# Altium footprint library Microchip Power Management MOSFET Driver.PcbLib: 41 footprints (part 1 of 3)
Each footprint in its own frame and in the unit in brackets; x right, y up, seen from the top. Pads: shape width x height; smd on the part's side, far side on the other; paste and mask are expansions set on the pad; w line width, h text height; cw(c..) or ccw(c..) is an arc to the next point about the centre after c.
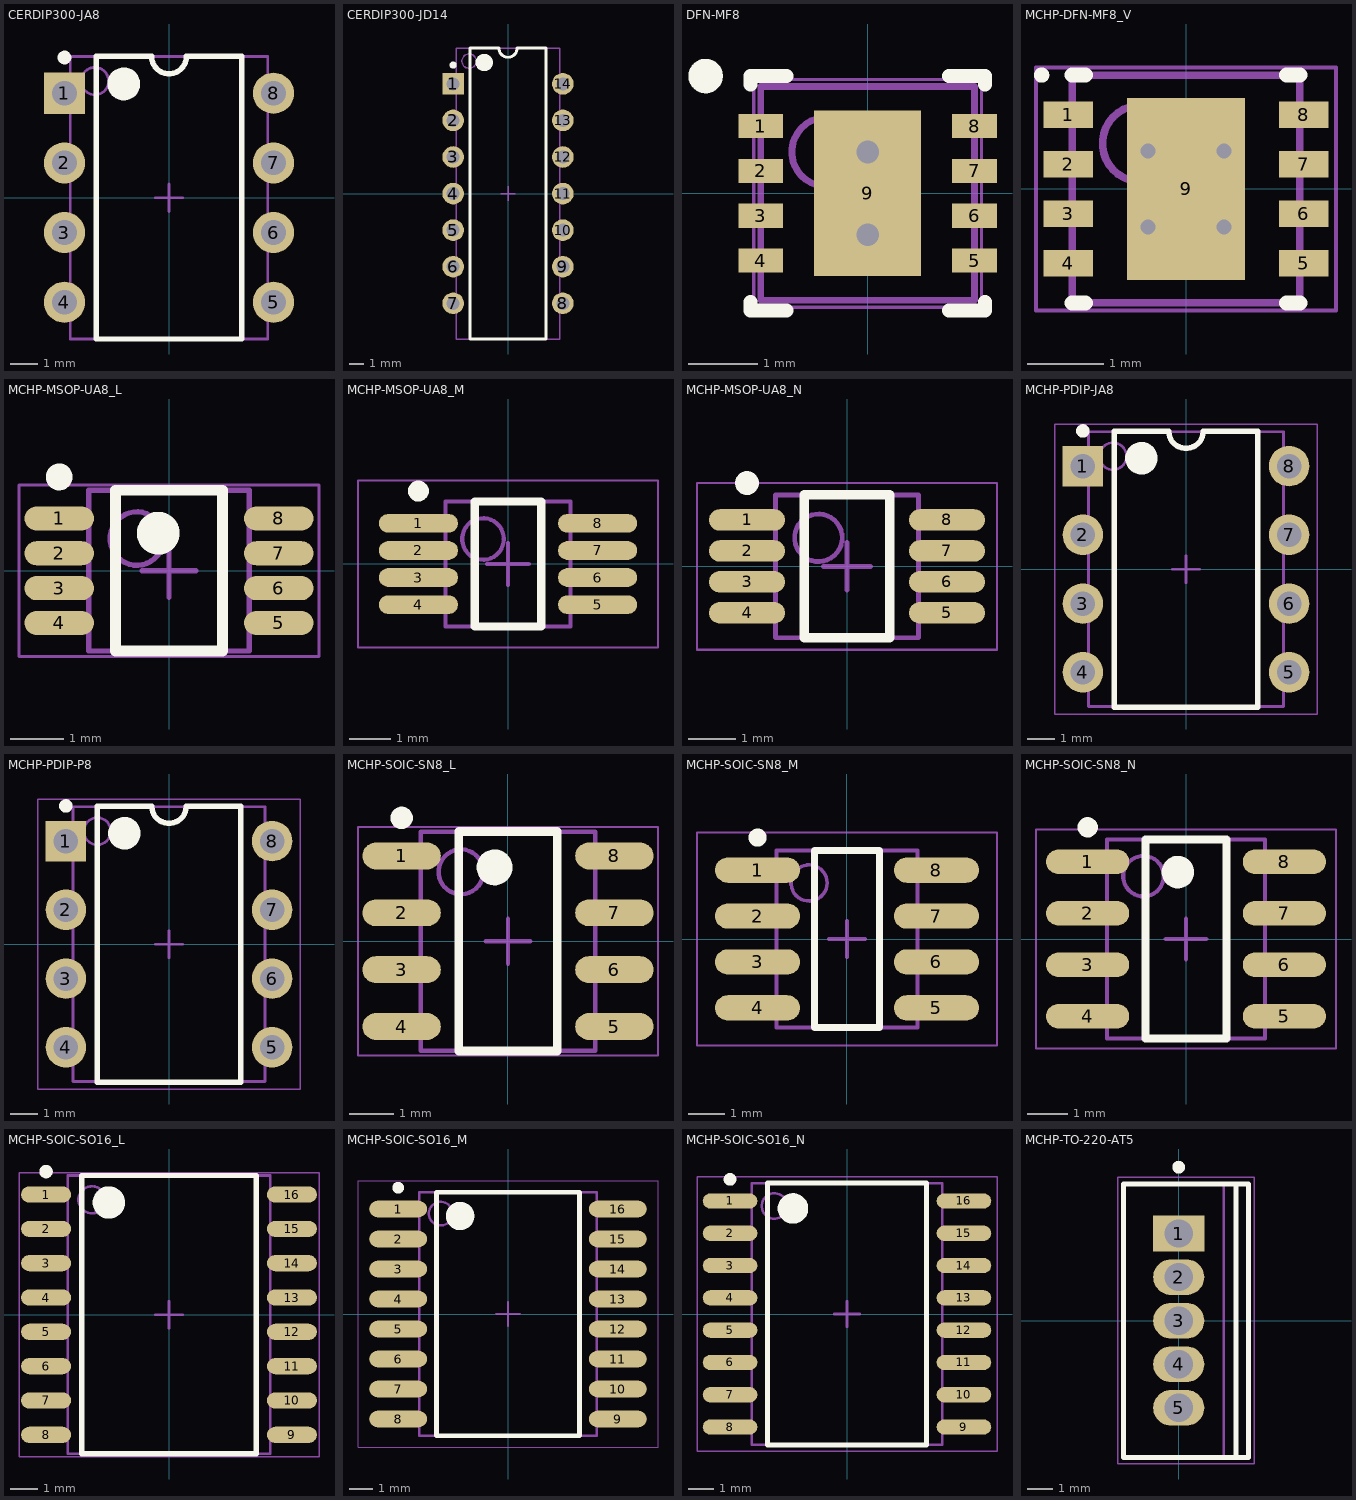
[diagram p0: the footprints below, top view; thin cyan lines are the x and y axes]

## CERDIP300-JA8 [mm] "DIP, 8-Leads, Row Spacing 7.62mm, Pitch 2.54mm, Body 9.8x6.7mm"
height 5.33
pads (8):
  rect 1.5x1.5 hole 0.9: 1(-3.81,3.81)
  round 1.5 hole 0.9: 2(-3.81,1.27) 3(-3.81,-1.27) 4(-3.81,-3.81) 5(3.81,-3.81) 6(3.81,-1.27) 7(3.81,1.27) 8(3.81,3.81)
Top Overlay:
  circle w0.25: c-3.81,5.11 r0.125
  circle w0.6: c-1.65,4.15 r0.3
  lines w0.2: -2.65,-5.15 -2.65,5.15 -0.635,5.15 ccw(c0,5.15) 0.635,5.15 2.65,5.15 2.65,-5.15 -2.65,-5.15
Mechanical 13:
  circle w0.1: c-2.7,4.25 r0.5
  lines w0.1: -3.6,-5.15 -3.6,5.15 3.6,5.15 3.6,-5.15 -3.6,-5.15
Mechanical 15:
  lines w0.1: -0.5,0 0.5,0 ; 0,-0.5 0,0.5
3D body: height 5.33, standoff 0, extent -3.6,-5.15 3.6,5.15

## CERDIP300-JD14 [mm] "DIP, 14-Leads, Row Spacing 7.62mm, Pitch 2.54mm, Body 19.3x6.7mm"
height 5.08
pads (14):
  rect 1.5x1.5 hole 0.9: 1(-3.81,7.62)
  round 1.5 hole 0.9: 2(-3.81,5.08) 3(-3.81,2.54) 4(-3.81,0) 5(-3.81,-2.54) 6(-3.81,-5.08) 7(-3.81,-7.62) 8(3.81,-7.62) 9(3.81,-5.08) 10(3.81,-2.54) 11(3.81,0) 12(3.81,2.54) 13(3.81,5.08) 14(3.81,7.62)
Top Overlay:
  circle w0.6: c-1.65,9.1 r0.3
  circle w0.25: c-3.81,8.92 r0.125
  lines w0.2: -2.65,-10.1 2.65,-10.1 2.65,10.1 0.635,10.1 cw(c0,10.1) -0.635,10.1 -2.65,10.1 -2.65,-10.1
Mechanical 13:
  circle w0.1: c-2.7,9.2 r0.5
  lines w0.1: -3.6,-10.1 3.6,-10.1 3.6,10.1 -3.6,10.1 -3.6,-10.1
Mechanical 15:
  lines w0.1: -0.5,0 0.5,0 ; 0,-0.5 0,0.5
3D body: height 5.08, standoff 0, extent -3.6,-10.1 3.6,10.1

## DFN-MF8 [mm] "SON, 8-Leads, Body 3x3mm, Pitch 0.65mm, Microchip Recommended"
height 1
pads (9):
  rect 0.65x0.35 smd: 1(-1.55,0.975) 2(-1.55,0.325) 3(-1.55,-0.325) 4(-1.55,-0.975) 5(1.55,-0.975) 6(1.55,-0.325) 7(1.55,0.325) 8(1.55,0.975)
  rect 1.55x2.4 smd: 9(0,0)
via 0,0.6 diameter 0.66 hole 0.33
via 0,-0.6 diameter 0.66 hole 0.33
Top Overlay:
  circle w0.25: c-2.35,1.7 r0.125
  lines w0.2: -1.7,-1.575 -1.7,-1.7 -1.175,-1.7 ; -1.7,1.575 -1.7,1.7 -1.175,1.7 ; 1.175,-1.7 1.7,-1.7 1.7,-1.575 ; 1.175,1.7 1.7,1.7 1.7,1.575
Mechanical 13:
  circle w0.1: c-0.6,0.6 r0.5
  lines w0.1: -1.55,-1.55 -1.55,1.55 1.55,1.55 1.55,-1.55 -1.55,-1.55
Mechanical 15:
  lines w0.05: -1.65,-1.65 -1.65,1.65 1.65,1.65 1.65,-1.65 -1.65,-1.65
  lines w0.1: -0.5,0 0.5,0 ; 0,-0.5 0,0.5
3D body: height 1, standoff 0, extent -1.55,-1.55 1.55,1.55

## MCHP-DFN-MF8_V [mm] "SON, 8-Leads, Body 3x3mm, Pitch 0.65mm, Thermal Pad 2.4x1.55mm"
height 1
pads (9):
  rect 0.65x0.35 smd: 1(-1.55,0.975) 2(-1.55,0.325) 3(-1.55,-0.325) 4(-1.55,-0.975) 5(1.55,-0.975) 6(1.55,-0.325) 7(1.55,0.325) 8(1.55,0.975)
  rect 1.55x2.4 smd: 9(0,0)
via -0.5,0.5 diameter 0.5 hole 0.2
via 0.5,0.5 diameter 0.5 hole 0.2
via -0.5,-0.5 diameter 0.5 hole 0.2
via 0.5,-0.5 diameter 0.5 hole 0.2
Top Overlay:
  circle w0.1: c-1.9,1.5 r0.05
  lines w0.2: -1.5,-1.5 -1.325,-1.5 ; -1.5,1.5 -1.325,1.5 ; 1.325,-1.5 1.5,-1.5 ; 1.325,1.5 1.5,1.5
Mechanical 13:
  circle w0.1: c-0.6,0.6 r0.5
  lines w0.1: -1.5,-1.5 -1.5,1.5 1.5,1.5 1.5,-1.5 -1.5,-1.5
Mechanical 15:
  lines w0.05: -1.975,-1.6 -1.975,1.6 1.975,1.6 1.975,-1.6 -1.975,-1.6
  lines w0.1: -0.5,0 0.5,0 ; 0,-0.5 0,0.5
3D body: height 1, standoff 0, extent -1.5,-1.5 1.5,1.5

## MCHP-MSOP-UA8_L [mm] "SOP, 8-Leads, Body 3x3mm, Pitch 0.65mm, IPC High Density"
height 1.1
pads (8):
  oval 1.3x0.45 smd: 1(-2.05,0.975) 2(-2.05,0.325) 3(-2.05,-0.325) 4(-2.05,-0.975) 5(2.05,-0.975) 6(2.05,-0.325) 7(2.05,0.325) 8(2.05,0.975)
Top Overlay:
  circle w0.25: c-2.05,1.75 r0.125
  circle w0.4: c-0.2,0.7 r0.2
  lines w0.2: -1,-1.5 -1,1.5 1,1.5 1,-1.5 -1,-1.5
Mechanical 13:
  circle w0.1: c-0.6,0.6 r0.5
  lines w0.1: -1.5,-1.5 -1.5,1.5 1.5,1.5 1.5,-1.5 -1.5,-1.5
Mechanical 15:
  lines w0.05: -2.8,-1.6 -2.8,1.6 2.8,1.6 2.8,-1.6 -2.8,-1.6
  lines w0.1: -0.5,0 0.5,0 ; 0,-0.5 0,0.5
3D body: height 1.1, standoff 0, extent -1.5,-1.5 1.5,1.5

## MCHP-MSOP-UA8_M [mm] "SOP, 8-Leads, Body 3x3mm, Pitch 0.65mm, IPC Low Density"
height 1.1
pads (8):
  oval 1.9x0.45 smd: 1(-2.15,0.975) 2(-2.15,0.325) 3(-2.15,-0.325) 4(-2.15,-0.975) 5(2.15,-0.975) 6(2.15,-0.325) 7(2.15,0.325) 8(2.15,0.975)
Top Overlay:
  circle w0.25: c-2.15,1.75 r0.125
  lines w0.2: -0.8,-1.5 -0.8,1.5 0.8,1.5 0.8,-1.5 -0.8,-1.5
Mechanical 13:
  circle w0.1: c-0.6,0.6 r0.5
  lines w0.1: -1.5,-1.5 -1.5,1.5 1.5,1.5 1.5,-1.5 -1.5,-1.5
Mechanical 15:
  lines w0.05: -3.6,-2 -3.6,2 3.6,2 3.6,-2 -3.6,-2
  lines w0.1: -0.5,0 0.5,0 ; 0,-0.5 0,0.5
3D body: height 1.1, standoff 0, extent -1.5,-1.5 1.5,1.5

## MCHP-MSOP-UA8_N [mm] "SOP, 8-Leads, Body 3x3mm, Pitch 0.65mm, IPC Medium Density"
height 1.1
pads (8):
  oval 1.6x0.45 smd: 1(-2.1,0.975) 2(-2.1,0.325) 3(-2.1,-0.325) 4(-2.1,-0.975) 5(2.1,-0.975) 6(2.1,-0.325) 7(2.1,0.325) 8(2.1,0.975)
Top Overlay:
  circle w0.25: c-2.1,1.75 r0.125
  lines w0.2: -0.9,-1.5 -0.9,1.5 0.9,1.5 0.9,-1.5 -0.9,-1.5
Mechanical 13:
  circle w0.1: c-0.6,0.6 r0.5
  lines w0.1: -1.5,-1.5 -1.5,1.5 1.5,1.5 1.5,-1.5 -1.5,-1.5
Mechanical 15:
  lines w0.05: -3.15,-1.75 -3.15,1.75 3.15,1.75 3.15,-1.75 -3.15,-1.75
  lines w0.1: -0.5,0 0.5,0 ; 0,-0.5 0,0.5
3D body: height 1.1, standoff 0, extent -1.5,-1.5 1.5,1.5

## MCHP-PDIP-JA8 [mm] "DIP, 8-Leads, Body 9.78x6.73mm, Pitch 2.54mm"
height 5.08
pads (8):
  rect 1.5x1.5 hole 0.9: 1(-3.81,3.81)
  round 1.5 hole 0.9: 2(-3.81,1.27) 3(-3.81,-1.27) 4(-3.81,-3.81) 5(3.81,-3.81) 6(3.81,-1.27) 7(3.81,1.27) 8(3.81,3.81)
Top Overlay:
  circle w0.25: c-3.81,5.11 r0.125
  circle w0.6: c-1.65,4.1 r0.3
  lines w0.2: -2.65,-5.1 -2.65,5.1 -0.635,5.1 ccw(c0,5.1) 0.635,5.1 2.65,5.1 2.65,-5.1 -2.65,-5.1
Mechanical 13:
  circle w0.1: c-2.7,4.175 r0.5
  lines w0.1: -3.6,-5.075 -3.6,5.075 3.6,5.075 3.6,-5.075 -3.6,-5.075
Mechanical 15:
  lines w0.05: -4.85,-5.35 -4.85,5.35 4.85,5.35 4.85,-5.35 -4.85,-5.35
  lines w0.1: -0.5,0 0.5,0 ; 0,-0.5 0,0.5
3D body: height 2.66, standoff 0, extent -3.945,3.31 -3.675,4.31
3D body: height 2.93, standoff 2.66, extent -3.945,3.31 -3.6,4.31
3D body: height 0, standoff -1.6, extent -3.945,3.45 -3.675,4.17
3D body: height 2.66, standoff 0, extent -3.945,0.77 -3.675,1.77
3D body: height 2.93, standoff 2.66, extent -3.945,0.77 -3.6,1.77
3D body: height 0, standoff -1.6, extent -3.945,0.91 -3.675,1.63
3D body: height 2.66, standoff 0, extent -3.945,-1.77 -3.675,-0.77
3D body: height 2.93, standoff 2.66, extent -3.945,-1.77 -3.6,-0.77
3D body: height 0, standoff -1.6, extent -3.945,-1.63 -3.675,-0.91
3D body: height 2.66, standoff 0, extent -3.945,-4.31 -3.675,-3.31
3D body: height 2.93, standoff 2.66, extent -3.945,-4.31 -3.6,-3.31
3D body: height 0, standoff -1.6, extent -3.945,-4.17 -3.675,-3.45
3D body: height 2.66, standoff 0, extent 3.675,-4.31 3.945,-3.31
3D body: height 2.93, standoff 2.66, extent 3.6,-4.31 3.945,-3.31
3D body: height 0, standoff -1.6, extent 3.675,-4.17 3.945,-3.45
3D body: height 2.66, standoff 0, extent 3.675,-1.77 3.945,-0.77
3D body: height 2.93, standoff 2.66, extent 3.6,-1.77 3.945,-0.77
3D body: height 0, standoff -1.6, extent 3.675,-1.63 3.945,-0.91
3D body: height 2.66, standoff 0, extent 3.675,0.77 3.945,1.77
3D body: height 2.93, standoff 2.66, extent 3.6,0.77 3.945,1.77
3D body: height 0, standoff -1.6, extent 3.675,0.91 3.945,1.63
3D body: height 2.66, standoff 0, extent 3.675,3.31 3.945,4.31
3D body: height 2.93, standoff 2.66, extent 3.6,3.31 3.945,4.31
3D body: height 0, standoff -1.6, extent 3.675,3.45 3.945,4.17
3D body: height 5.08, standoff 0.51, extent -3.6,-5.075 3.6,5.075

## MCHP-PDIP-P8 [mm] "PDIP, 8-Leads, Body 9.5x6.604mm, Pitch 2.54mm"
height 5.34
pads (8):
  rect 1.5x1.5 hole 0.9: 1(-3.81,3.81)
  round 1.5 hole 0.9: 2(-3.81,1.27) 3(-3.81,-1.27) 4(-3.81,-3.81) 5(3.81,-3.81) 6(3.81,-1.27) 7(3.81,1.27) 8(3.81,3.81)
Top Overlay:
  circle w0.25: c-3.81,5.11 r0.125
  circle w0.6: c-1.65,4.1 r0.3
  lines w0.2: -2.65,-5.1 -2.65,5.1 -0.635,5.1 ccw(c0,5.1) 0.635,5.1 2.65,5.1 2.65,-5.1 -2.65,-5.1
Mechanical 13:
  circle w0.1: c-2.65,4.175 r0.5
  lines w0.1: -3.55,-5.075 -3.55,5.075 3.55,5.075 3.55,-5.075 -3.55,-5.075
Mechanical 15:
  lines w0.05: -4.85,-5.35 -4.85,5.35 4.85,5.35 4.85,-5.35 -4.85,-5.35
  lines w0.1: -0.5,0 0.5,0 ; 0,-0.5 0,0.5
3D body: height 2.73, standoff 0, extent -3.945,3.31 -3.675,4.31
3D body: height 3, standoff 2.72, extent -3.945,3.31 -3.55,4.31
3D body: height 0, standoff -1.6, extent -3.945,3.45 -3.675,4.17
3D body: height 2.73, standoff 0, extent -3.945,0.77 -3.675,1.77
3D body: height 3, standoff 2.72, extent -3.945,0.77 -3.55,1.77
3D body: height 0, standoff -1.6, extent -3.945,0.91 -3.675,1.63
3D body: height 2.73, standoff 0, extent -3.945,-1.77 -3.675,-0.77
3D body: height 3, standoff 2.72, extent -3.945,-1.77 -3.55,-0.77
3D body: height 0, standoff -1.6, extent -3.945,-1.63 -3.675,-0.91
3D body: height 2.73, standoff 0, extent -3.945,-4.31 -3.675,-3.31
3D body: height 3, standoff 2.72, extent -3.945,-4.31 -3.55,-3.31
3D body: height 0, standoff -1.6, extent -3.945,-4.17 -3.675,-3.45
3D body: height 2.73, standoff 0, extent 3.675,-4.31 3.945,-3.31
3D body: height 3, standoff 2.72, extent 3.55,-4.31 3.945,-3.31
3D body: height 0, standoff -1.6, extent 3.675,-4.17 3.945,-3.45
3D body: height 2.73, standoff 0, extent 3.675,-1.77 3.945,-0.77
3D body: height 3, standoff 2.72, extent 3.55,-1.77 3.945,-0.77
3D body: height 0, standoff -1.6, extent 3.675,-1.63 3.945,-0.91
3D body: height 2.73, standoff 0, extent 3.675,0.77 3.945,1.77
3D body: height 3, standoff 2.72, extent 3.55,0.77 3.945,1.77
3D body: height 0, standoff -1.6, extent 3.675,0.91 3.945,1.63
3D body: height 2.73, standoff 0, extent 3.675,3.31 3.945,4.31
3D body: height 3, standoff 2.72, extent 3.55,3.31 3.945,4.31
3D body: height 0, standoff -1.6, extent 3.675,3.45 3.945,4.17
3D body: height 5.34, standoff 0.38, extent -3.55,-5.075 3.55,5.075

## MCHP-SOIC-SN8_L [mm] "SOIC, 8-Leads, Body 4.9x3.9mm, Pitch 1.27mm, IPC High Density"
height 1.75
pads (8):
  oval 1.75x0.6 smd: 1(-2.375,1.905) 2(-2.375,0.635) 3(-2.375,-0.635) 4(-2.375,-1.905) 5(2.375,-1.905) 6(2.375,-0.635) 7(2.375,0.635) 8(2.375,1.905)
Top Overlay:
  circle w0.4: c-0.3,1.65 r0.2
  circle w0.25: c-2.375,2.755 r0.125
  lines w0.2: -1.1,-2.45 1.1,-2.45 1.1,2.45 -1.1,2.45 -1.1,-2.45
Mechanical 13:
  circle w0.1: c-1.05,1.55 r0.5
  lines w0.1: -1.95,-2.45 1.95,-2.45 1.95,2.45 -1.95,2.45 -1.95,-2.45
Mechanical 15:
  lines w0.05: -3.35,-2.55 3.35,-2.55 3.35,2.55 -3.35,2.55 -3.35,-2.55
  lines w0.1: -0.5,0 0.5,0 ; 0,-0.5 0,0.5
3D body: height 1.75, standoff 0.1, extent -1.95,-2.45 1.95,2.45

## MCHP-SOIC-SN8_M [mm] "SOIC, 8-Leads, Body 4.9x3.9mm, Pitch 1.27mm, IPC Low Density"
height 1.75
pads (8):
  oval 2.35x0.7 smd: 1(-2.475,1.905) 2(-2.475,0.635) 3(-2.475,-0.635) 4(-2.475,-1.905) 5(2.475,-1.905) 6(2.475,-0.635) 7(2.475,0.635) 8(2.475,1.905)
Top Overlay:
  circle w0.25: c-2.475,2.805 r0.125
  lines w0.2: -0.9,-2.45 -0.9,2.45 0.9,2.45 0.9,-2.45 -0.9,-2.45
Mechanical 13:
  circle w0.1: c-1.05,1.55 r0.5
  lines w0.1: -1.95,-2.45 -1.95,2.45 1.95,2.45 1.95,-2.45 -1.95,-2.45
Mechanical 15:
  lines w0.05: -4.15,-2.95 -4.15,2.95 4.15,2.95 4.15,-2.95 -4.15,-2.95
  lines w0.1: -0.5,0 0.5,0 ; 0,-0.5 0,0.5
3D body: height 1.75, standoff 0.1, extent -1.95,-2.45 1.95,2.45

## MCHP-SOIC-SN8_N [mm] "SOIC, 8-Leads, Body 4.9x3.9mm, Pitch 1.27mm, IPC Medium Density"
height 1.75
pads (8):
  oval 2.05x0.6 smd: 1(-2.425,1.905) 2(-2.425,0.635) 3(-2.425,-0.635) 4(-2.425,-1.905) 5(2.425,-1.905) 6(2.425,-0.635) 7(2.425,0.635) 8(2.425,1.905)
Top Overlay:
  circle w0.4: c-0.2,1.65 r0.2
  circle w0.25: c-2.425,2.755 r0.125
  lines w0.2: -1,-2.45 1,-2.45 1,2.45 -1,2.45 -1,-2.45
Mechanical 13:
  circle w0.1: c-1.05,1.55 r0.5
  lines w0.1: -1.95,-2.45 1.95,-2.45 1.95,2.45 -1.95,2.45 -1.95,-2.45
Mechanical 15:
  lines w0.05: -3.7,-2.7 3.7,-2.7 3.7,2.7 -3.7,2.7 -3.7,-2.7
  lines w0.1: -0.5,0 0.5,0 ; 0,-0.5 0,0.5
3D body: height 1.75, standoff 0.1, extent -1.95,-2.45 1.95,2.45

## MCHP-SOIC-SO16_L [mm] "SOIC, 16-Leads, Body 10.3x7.5mm, Pitch 1.27mm, IPC High Density"
height 2.65
pads (16):
  oval 1.85x0.6 smd: 1(-4.55,4.445) 2(-4.55,3.175) 3(-4.55,1.905) 4(-4.55,0.635) 5(-4.55,-0.635) 6(-4.55,-1.905) 7(-4.55,-3.175) 8(-4.55,-4.445) 9(4.55,-4.445) 10(4.55,-3.175) 11(4.55,-1.905) 12(4.55,-0.635) 13(4.55,0.635) 14(4.55,1.905) 15(4.55,3.175) 16(4.55,4.445)
Top Overlay:
  circle w0.6: c-2.225,4.15 r0.3
  circle w0.25: c-4.55,5.295 r0.125
  lines w0.2: -3.225,-5.15 3.225,-5.15 3.225,5.15 -3.225,5.15 -3.225,-5.15
Mechanical 13:
  circle w0.1: c-2.85,4.25 r0.5
  lines w0.1: -3.75,-5.15 3.75,-5.15 3.75,5.15 -3.75,5.15 -3.75,-5.15
Mechanical 15:
  lines w0.05: -5.55,-5.25 5.55,-5.25 5.55,5.25 -5.55,5.25 -5.55,-5.25
  lines w0.1: -0.5,0 0.5,0 ; 0,-0.5 0,0.5
3D body: height 2.65, standoff 0.1, extent -3.75,-5.15 3.75,5.15

## MCHP-SOIC-SO16_M [mm] "SOIC, 16-Leads, Body 10.3x7.5mm, Pitch 1.27mm, IPC Low Density"
height 2.65
pads (16):
  oval 2.45x0.7 smd: 1(-4.65,4.445) 2(-4.65,3.175) 3(-4.65,1.905) 4(-4.65,0.635) 5(-4.65,-0.635) 6(-4.65,-1.905) 7(-4.65,-3.175) 8(-4.65,-4.445) 9(4.65,-4.445) 10(4.65,-3.175) 11(4.65,-1.905) 12(4.65,-0.635) 13(4.65,0.635) 14(4.65,1.905) 15(4.65,3.175) 16(4.65,4.445)
Top Overlay:
  circle w0.6: c-2.025,4.15 r0.3
  circle w0.25: c-4.65,5.345 r0.125
  lines w0.2: -3.025,-5.15 3.025,-5.15 3.025,5.15 -3.025,5.15 -3.025,-5.15
Mechanical 13:
  circle w0.1: c-2.85,4.25 r0.5
  lines w0.1: -3.75,-5.15 3.75,-5.15 3.75,5.15 -3.75,5.15 -3.75,-5.15
Mechanical 15:
  lines w0.05: -6.35,-5.65 6.35,-5.65 6.35,5.65 -6.35,5.65 -6.35,-5.65
  lines w0.1: -0.5,0 0.5,0 ; 0,-0.5 0,0.5
3D body: height 2.65, standoff 0.1, extent -3.75,-5.15 3.75,5.15

## MCHP-SOIC-SO16_N [mm] "SOIC, 16-Leads, Body 10.3x7.5mm, Pitch 1.27mm, IPC Medium Density"
height 2.65
pads (16):
  oval 2.15x0.6 smd: 1(-4.6,4.445) 2(-4.6,3.175) 3(-4.6,1.905) 4(-4.6,0.635) 5(-4.6,-0.635) 6(-4.6,-1.905) 7(-4.6,-3.175) 8(-4.6,-4.445) 9(4.6,-4.445) 10(4.6,-3.175) 11(4.6,-1.905) 12(4.6,-0.635) 13(4.6,0.635) 14(4.6,1.905) 15(4.6,3.175) 16(4.6,4.445)
Top Overlay:
  circle w0.25: c-4.6,5.295 r0.125
  circle w0.6: c-2.125,4.15 r0.3
  lines w0.2: -3.125,-5.15 -3.125,5.15 3.125,5.15 3.125,-5.15 -3.125,-5.15
Mechanical 13:
  circle w0.1: c-2.85,4.25 r0.5
  lines w0.1: -3.75,-5.15 -3.75,5.15 3.75,5.15 3.75,-5.15 -3.75,-5.15
Mechanical 15:
  lines w0.05: -5.9,-5.4 -5.9,5.4 5.9,5.4 5.9,-5.4 -5.9,-5.4
  lines w0.1: -0.5,0 0.5,0 ; 0,-0.5 0,0.5
3D body: height 2.65, standoff 0.1, extent -3.75,-5.15 3.75,5.15

## MCHP-TO-220-AT5 [mm] "FM, 5-Leads, Body 10.16x8.7mm, Pitch 1.702mm"
height 16.51
pads (5):
  rect 2x1.4 hole 1.1: 1(0,3.404)
  oval 2x1.4 hole 1.1: 2(0,1.702) 3(0,0) 4(0,-1.702) 5(0,-3.404)
Top Overlay:
  circle w0.25: c0,6 r0.125
  lines w0.2: 2.235,-5.35 2.235,5.35 ; -2.165,-5.35 2.735,-5.35 2.735,5.35 -2.165,5.35 -2.165,-5.35
Mechanical 13:
  lines w0.1: 1.76,-5.35 1.76,5.35 ; -2.14,-5.35 -2.14,5.35 2.71,5.35 2.71,-5.35 -2.14,-5.35
Mechanical 15:
  lines w0.05: -2.39,-5.6 -2.39,5.6 2.96,5.6 2.96,-5.6 -2.39,-5.6
  lines w0.1: -0.5,0 0.5,0 ; 0,-0.5 0,0.5
3D body: height 0, standoff -1.6, extent -0.235,3.054 0.235,3.754
3D body: height 0, standoff -1.6, extent -0.235,1.352 0.235,2.052
3D body: height 0, standoff -1.6, extent -0.235,-0.35 0.235,0.35
3D body: height 0, standoff -1.6, extent -0.235,-2.052 0.235,-1.352
3D body: height 0, standoff -1.6, extent -0.235,-3.754 0.235,-3.054
3D body: height 10.21, standoff 0, extent -2.14,-5.35 2.71,5.35
3D body: height 11.84, standoff 10.21, extent 1.76,-5.075 2.71,5.075
3D body: height 11.88, standoff 11.84, extent 1.76,0.366 2.71,5.075
3D body: height 11.88, standoff 11.84, extent 1.76,-5.075 2.71,-0.366
3D body: height 15.59, standoff 15.55, extent 1.76,0.366 2.71,5.075
3D body: height 15.59, standoff 15.55, extent 1.76,-5.075 2.71,-0.366
3D body: height 11.98, standoff 11.87, extent 1.76,0.718 2.71,5.075
3D body: height 11.98, standoff 11.87, extent 1.76,-5.075 2.71,-0.718
3D body: height 15.55, standoff 15.44, extent 1.76,0.718 2.71,5.075
3D body: height 15.55, standoff 15.44, extent 1.76,-5.075 2.71,-0.718
3D body: height 12.16, standoff 11.98, extent 1.76,1.042 2.71,5.075
3D body: height 12.16, standoff 11.98, extent 1.76,-5.075 2.71,-1.042
3D body: height 15.45, standoff 15.27, extent 1.76,1.042 2.71,5.075
3D body: height 15.45, standoff 15.27, extent 1.76,-5.075 2.71,-1.042
3D body: height 12.39, standoff 12.15, extent 1.76,1.326 2.71,5.075
3D body: height 12.39, standoff 12.15, extent 1.76,-5.075 2.71,-1.326
3D body: height 15.27, standoff 15.04, extent 1.76,1.326 2.71,5.075
3D body: height 15.27, standoff 15.04, extent 1.76,-5.075 2.71,-1.326
3D body: height 12.67, standoff 12.38, extent 1.76,1.559 2.71,5.075
3D body: height 12.67, standoff 12.38, extent 1.76,-5.075 2.71,-1.559
3D body: height 15.04, standoff 14.75, extent 1.76,1.559 2.71,5.075
3D body: height 15.04, standoff 14.75, extent 1.76,-5.075 2.71,-1.559
3D body: height 13, standoff 12.67, extent 1.76,1.732 2.71,5.075
3D body: height 13, standoff 12.67, extent 1.76,-5.075 2.71,-1.732
3D body: height 14.76, standoff 14.43, extent 1.76,1.732 2.71,5.075
3D body: height 14.76, standoff 14.43, extent 1.76,-5.075 2.71,-1.732
3D body: height 13.35, standoff 12.99, extent 1.76,1.839 2.71,5.075
3D body: height 13.35, standoff 12.99, extent 1.76,-5.075 2.71,-1.839
3D body: height 14.43, standoff 14.08, extent 1.76,1.839 2.71,5.075
3D body: height 14.43, standoff 14.08, extent 1.76,-5.075 2.71,-1.839
3D body: height 13.71, standoff 13.34, extent 1.76,1.875 2.71,5.075
3D body: height 13.71, standoff 13.34, extent 1.76,-5.075 2.71,-1.875
3D body: height 14.08, standoff 13.71, extent 1.76,1.875 2.71,5.075
3D body: height 14.08, standoff 13.71, extent 1.76,-5.075 2.71,-1.875
3D body: height 16.51, standoff 15.59, extent 1.76,-5.075 2.71,5.075